# EAGLE library part TDA2822 (library GFE LOGO)
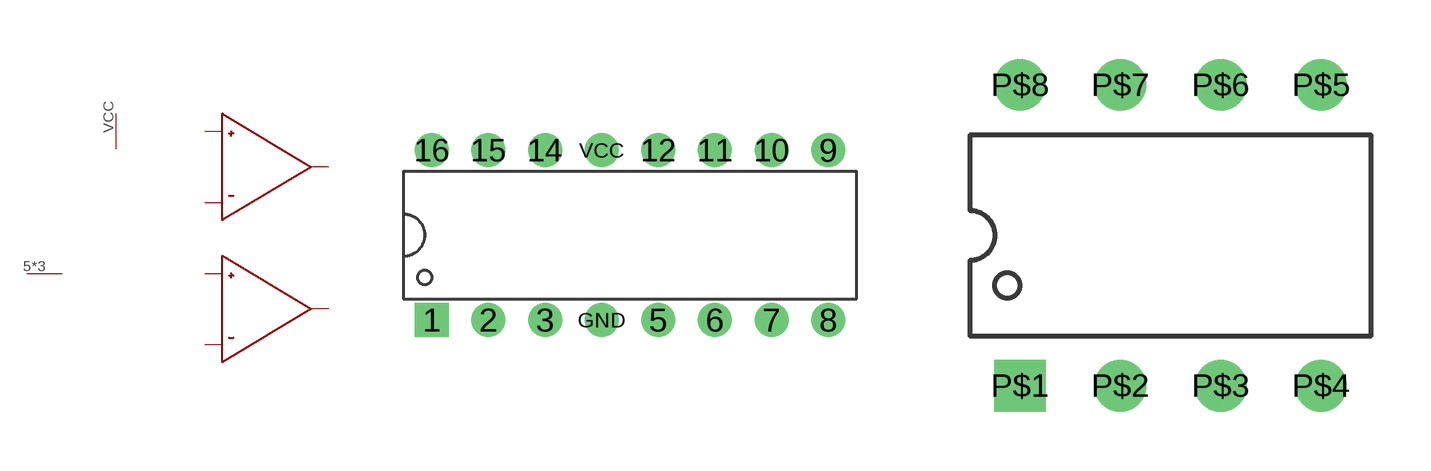
[diagram p5: symbol with the pads of DIL16; footprints DIL16, DIL8]

Designator prefix -; gates G$1=TDA2822 G$2=TDA2822 G$3=SUPPLY

## TDA2822  [DIL16]
1  G$1:+
3  G$1:-
5  G$3:VSS
6  G$1:OUT
11  G$2:OUT
12  G$3:VSS
14  G$2:-
16  G$2:+
GND  G$3:VSS
VCC  G$3:VCC

## TDA2822M  [DIL8]

## Footprint DIL16 (pad centres in mm)
drill 0.8 pad 1.524 square: 1 -8.89,-3.81
drill 0.8 pad 1.524: 2 -6.35,-3.81; 3 -3.81,-3.81; 5 1.27,-3.81; 6 3.81,-3.81; 7 6.35,-3.81; 8 8.89,-3.81; 9 8.89,3.81; 10 6.35,3.81; 11 3.81,3.81; 12 1.27,3.81; 14 -3.81,3.81; 15 -6.35,3.81; 16 -8.89,3.81; GND -1.27,-3.81; VCC -1.27,3.81

## Footprint DIL8 (pad centres in mm)
drill 0.8 square: P$1 -3.81,-3.81
drill 0.8: P$2 -1.27,-3.81; P$3 1.27,-3.81; P$4 3.81,-3.81; P$5 3.81,3.81; P$6 1.27,3.81; P$7 -1.27,3.81; P$8 -3.81,3.81